# EAGLE library part F28388DZWTSR (library F28388DZWTSR)
32-bit Microcontrollers - MCU C2000 32-bit MCU w/ connectivity manager, 2x C28x+CLA CPU, 1.5-MB flash, FPU64, CLB, ENET, EtherCAT 337-NFBGA -40 to 125 Source: Datasheet <https://www.ti.com/lit/ds/symlink/tms320f28388d.pdf?ts=1627491509300>
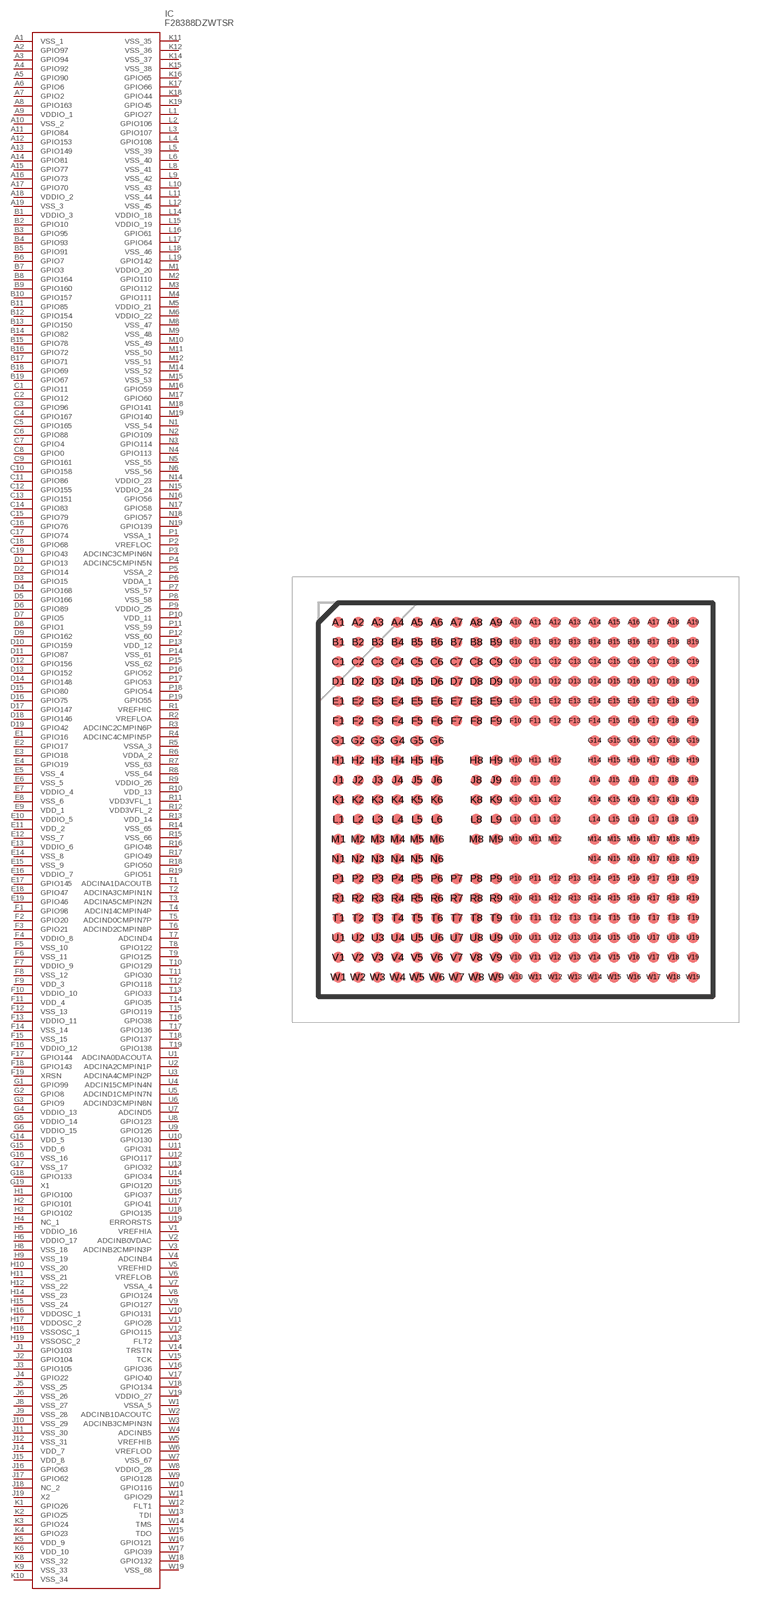
[diagram p0: symbol with the pads of BGA337C80P19X19_1600X1600X140; footprint BGA337C80P19X19_1600X1600X140]

Designator prefix IC

## F28388DZWTSR (Arrow_Part_Number: F28388DZWTSR; Arrow_Price-Stock: https://www.arrow.com/en/products/f28388dzwtsr/texas-instruments?utm_currency=USD&region=nac; Description: 32-bit Microcontrollers - MCU C2000 32-bit MCU w/ connectivity manager, 2x C28x+CLA CPU, 1.5-MB flash, FPU64, CLB, ENET, EtherCAT 337-NFBGA -40 to 125; Height: 1.4mm; Manufacturer_Name: Texas Instruments; Manufacturer_Part_Number: F28388DZWTSR; Mouser_Part_Number: 595-F28388DZWTSR; Mouser_Price-Stock: https://www.mouser.co.uk/ProductDetail/Texas-Instruments/F28388DZWTSR?qs=mAH9sUMRCtsR9XHp7VqOZA%3D%3D)  [BGA337C80P19X19_1600X1600X140]
A1  VSS_1
A2  GPIO97
A3  GPIO94
A4  GPIO92
A5  GPIO90
A6  GPIO6
A7  GPIO2
A8  GPIO163
A9  VDDIO_1
A10  VSS_2
A11  GPIO84
A12  GPIO153
A13  GPIO149
A14  GPIO81
A15  GPIO77
A16  GPIO73
A17  GPIO70
A18  VDDIO_2
A19  VSS_3
B1  VDDIO_3
B2  GPIO10
B3  GPIO95
B4  GPIO93
B5  GPIO91
B6  GPIO7
B7  GPIO3
B8  GPIO164
B9  GPIO160
B10  GPIO157
B11  GPIO85
B12  GPIO154
B13  GPIO150
B14  GPIO82
B15  GPIO78
B16  GPIO72
B17  GPIO71
B18  GPIO69
B19  GPIO67
C1  GPIO11
C2  GPIO12
C3  GPIO96
C4  GPIO167
C5  GPIO165
C6  GPIO88
C7  GPIO4
C8  GPIO0
C9  GPIO161
C10  GPIO158
C11  GPIO86
C12  GPIO155
C13  GPIO151
C14  GPIO83
C15  GPIO79
C16  GPIO76
C17  GPIO74
C18  GPIO68
C19  GPIO43
D1  GPIO13
D2  GPIO14
D3  GPIO15
D4  GPIO168
D5  GPIO166
D6  GPIO89
D7  GPIO5
D8  GPIO1
D9  GPIO162
D10  GPIO159
D11  GPIO87
D12  GPIO156
D13  GPIO152
D14  GPIO148
D15  GPIO80
D16  GPIO75
D17  GPIO147
D18  GPIO146
D19  GPIO42
E1  GPIO16
E2  GPIO17
E3  GPIO18
E4  GPIO19
E5  VSS_4
E6  VSS_5
E7  VDDIO_4
E8  VSS_6
E9  VDD_1
E10  VDDIO_5
E11  VDD_2
E12  VSS_7
E13  VDDIO_6
E14  VSS_8
E15  VSS_9
E16  VDDIO_7
E17  GPIO145
E18  GPIO47
E19  GPIO46
F1  GPIO98
F2  GPIO20
F3  GPIO21
F4  VDDIO_8
F5  VSS_10
F6  VSS_11
F7  VDDIO_9
F8  VSS_12
F9  VDD_3
F10  VDDIO_10
F11  VDD_4
F12  VSS_13
F13  VDDIO_11
F14  VSS_14
F15  VSS_15
F16  VDDIO_12
F17  GPIO144
F18  GPIO143
F19  XRSN
G1  GPIO99
G2  GPIO8
G3  GPIO9
G4  VDDIO_13
G5  VDDIO_14
G6  VDDIO_15
G14  VDD_5
G15  VDD_6
G16  VSS_16
G17  VSS_17
G18  GPIO133
G19  X1
H1  GPIO100
H2  GPIO101
H3  GPIO102
H4  NC_1
H5  VDDIO_16
H6  VDDIO_17
H8  VSS_18
H9  VSS_19
H10  VSS_20
H11  VSS_21
H12  VSS_22
H14  VSS_23
H15  VSS_24
H16  VDDOSC_1
H17  VDDOSC_2
H18  VSSOSC_1
H19  VSSOSC_2
J1  GPIO103
J2  GPIO104
J3  GPIO105
J4  GPIO22
J5  VSS_25
J6  VSS_26
J8  VSS_27
J9  VSS_28
J10  VSS_29
J11  VSS_30
J12  VSS_31
J14  VDD_7
J15  VDD_8
J16  GPIO63
J17  GPIO62
J18  NC_2
J19  X2
K1  GPIO26
K2  GPIO25
K3  GPIO24
K4  GPIO23
K5  VDD_9
K6  VDD_10
K8  VSS_32
K9  VSS_33
K10  VSS_34
K11  VSS_35
K12  VSS_36
K14  VSS_37
K15  VSS_38
K16  GPIO65
K17  GPIO66
K18  GPIO44
K19  GPIO45
L1  GPIO27
L2  GPIO106
L3  GPIO107
L4  GPIO108
L5  VSS_39
L6  VSS_40
L8  VSS_41
L9  VSS_42
L10  VSS_43
L11  VSS_44
L12  VSS_45
L14  VDDIO_18
L15  VDDIO_19
L16  GPIO61
L17  GPIO64
L18  VSS_46
L19  GPIO142
M1  VDDIO_20
M2  GPIO110
M3  GPIO112
M4  GPIO111
M5  VDDIO_21
M6  VDDIO_22
M8  VSS_47
M9  VSS_48
M10  VSS_49
M11  VSS_50
M12  VSS_51
M14  VSS_52
M15  VSS_53
M16  GPIO59
M17  GPIO60
M18  GPIO141
M19  GPIO140
N1  VSS_54
N2  GPIO109
N3  GPIO114
N4  GPIO113
N5  VSS_55
N6  VSS_56
N14  VDDIO_23
N15  VDDIO_24
N16  GPIO56
N17  GPIO58
N18  GPIO57
N19  GPIO139
P1  VSSA_1
P2  VREFLOC
P3  ADCINC3CMPIN6N
P4  ADCINC5CMPIN5N
P5  VSSA_2
P6  VDDA_1
P7  VSS_57
P8  VSS_58
P9  VDDIO_25
P10  VDD_11
P11  VSS_59
P12  VSS_60
P13  VDD_12
P14  VSS_61
P15  VSS_62
P16  GPIO52
P17  GPIO53
P18  GPIO54
P19  GPIO55
R1  VREFHIC
R2  VREFLOA
R3  ADCINC2CMPIN6P
R4  ADCINC4CMPIN5P
R5  VSSA_3
R6  VDDA_2
R7  VSS_63
R8  VSS_64
R9  VDDIO_26
R10  VDD_13
R11  VDD3VFL_1
R12  VDD3VFL_2
R13  VDD_14
R14  VSS_65
R15  VSS_66
R16  GPIO48
R17  GPIO49
R18  GPIO50
R19  GPIO51
T1  ADCINA1DACOUTB
T2  ADCINA3CMPIN1N
T3  ADCINA5CMPIN2N
T4  ADCIN14CMPIN4P
T5  ADCIND0CMPIN7P
T6  ADCIND2CMPIN8P
T7  ADCIND4
T8  GPIO122
T9  GPIO125
T10  GPIO129
T11  GPIO30
T12  GPIO118
T13  GPIO33
T14  GPIO35
T15  GPIO119
T16  GPIO38
T17  GPIO136
T18  GPIO137
T19  GPIO138
U1  ADCINA0DACOUTA
U2  ADCINA2CMPIN1P
U3  ADCINA4CMPIN2P
U4  ADCIN15CMPIN4N
U5  ADCIND1CMPIN7N
U6  ADCIND3CMPIN8N
U7  ADCIND5
U8  GPIO123
U9  GPIO126
U10  GPIO130
U11  GPIO31
U12  GPIO117
U13  GPIO32
U14  GPIO34
U15  GPIO120
U16  GPIO37
U17  GPIO41
U18  GPIO135
U19  ERRORSTS
V1  VREFHIA
V2  ADCINB0VDAC
V3  ADCINB2CMPIN3P
V4  ADCINB4
V5  VREFHID
V6  VREFLOB
V7  VSSA_4
V8  GPIO124
V9  GPIO127
V10  GPIO131
V11  GPIO28
V12  GPIO115
V13  FLT2
V14  TRSTN
V15  TCK
V16  GPIO36
V17  GPIO40
V18  GPIO134
V19  VDDIO_27
W1  VSSA_5
W2  ADCINB1DACOUTC
W3  ADCINB3CMPIN3N
W4  ADCINB5
W5  VREFHIB
W6  VREFLOD
W7  VSS_67
W8  VDDIO_28
W9  GPIO128
W10  GPIO116
W11  GPIO29
W12  FLT1
W13  TDI
W14  TMS
W15  TDO
W16  GPIO121
W17  GPIO39
W18  GPIO132
W19  VSS_68

## Footprint BGA337C80P19X19_1600X1600X140 (pad centres in mm)
ZWT (S-PBGA-N337)
smd 0.45 x 0.45: A1 -7.2,7.2; A2 -6.4,7.2; A3 -5.6,7.2; A4 -4.8,7.2; A5 -4,7.2; A6 -3.2,7.2; A7 -2.4,7.2; A8 -1.6,7.2; A9 -0.8,7.2; A10 0,7.2; A11 0.8,7.2; A12 1.6,7.2; A13 2.4,7.2; A14 3.2,7.2; A15 4,7.2; A16 4.8,7.2; A17 5.6,7.2; A18 6.4,7.2; A19 7.2,7.2; B1 -7.2,6.4; B2 -6.4,6.4; B3 -5.6,6.4; B4 -4.8,6.4; B5 -4,6.4; B6 -3.2,6.4; B7 -2.4,6.4; B8 -1.6,6.4; B9 -0.8,6.4; B10 0,6.4; B11 0.8,6.4; B12 1.6,6.4; B13 2.4,6.4; B14 3.2,6.4; B15 4,6.4; B16 4.8,6.4; B17 5.6,6.4; B18 6.4,6.4; B19 7.2,6.4; C1 -7.2,5.6; C2 -6.4,5.6; C3 -5.6,5.6; C4 -4.8,5.6; C5 -4,5.6; C6 -3.2,5.6; C7 -2.4,5.6; C8 -1.6,5.6; C9 -0.8,5.6; C10 0,5.6; C11 0.8,5.6; C12 1.6,5.6; C13 2.4,5.6; C14 3.2,5.6; C15 4,5.6; C16 4.8,5.6; C17 5.6,5.6; C18 6.4,5.6; C19 7.2,5.6; D1 -7.2,4.8; D2 -6.4,4.8; D3 -5.6,4.8; D4 -4.8,4.8; D5 -4,4.8; D6 -3.2,4.8; D7 -2.4,4.8; D8 -1.6,4.8; D9 -0.8,4.8; D10 0,4.8; D11 0.8,4.8; D12 1.6,4.8; D13 2.4,4.8; D14 3.2,4.8; D15 4,4.8; D16 4.8,4.8; D17 5.6,4.8; D18 6.4,4.8; D19 7.2,4.8; E1 -7.2,4; E2 -6.4,4; E3 -5.6,4; E4 -4.8,4; E5 -4,4; E6 -3.2,4; E7 -2.4,4; E8 -1.6,4; E9 -0.8,4; E10 0,4; E11 0.8,4; E12 1.6,4; E13 2.4,4; E14 3.2,4; E15 4,4; E16 4.8,4; E17 5.6,4; E18 6.4,4; E19 7.2,4; F1 -7.2,3.2; F2 -6.4,3.2; F3 -5.6,3.2; F4 -4.8,3.2; F5 -4,3.2; F6 -3.2,3.2; F7 -2.4,3.2; F8 -1.6,3.2; F9 -0.8,3.2; F10 0,3.2; F11 0.8,3.2; F12 1.6,3.2; F13 2.4,3.2; F14 3.2,3.2; F15 4,3.2; F16 4.8,3.2; F17 5.6,3.2; F18 6.4,3.2; F19 7.2,3.2; G1 -7.2,2.4; G2 -6.4,2.4; G3 -5.6,2.4; G4 -4.8,2.4; G5 -4,2.4; G6 -3.2,2.4; G14 3.2,2.4; G15 4,2.4; G16 4.8,2.4; G17 5.6,2.4; G18 6.4,2.4; G19 7.2,2.4; H1 -7.2,1.6; H2 -6.4,1.6; H3 -5.6,1.6; H4 -4.8,1.6; H5 -4,1.6; H6 -3.2,1.6; H8 -1.6,1.6; H9 -0.8,1.6; H10 0,1.6; H11 0.8,1.6; H12 1.6,1.6; H14 3.2,1.6; H15 4,1.6; H16 4.8,1.6; H17 5.6,1.6; H18 6.4,1.6; H19 7.2,1.6; J1 -7.2,0.8; J2 -6.4,0.8; J3 -5.6,0.8; J4 -4.8,0.8; J5 -4,0.8; J6 -3.2,0.8; J8 -1.6,0.8; J9 -0.8,0.8; J10 0,0.8; J11 0.8,0.8; J12 1.6,0.8; J14 3.2,0.8; J15 4,0.8; J16 4.8,0.8; J17 5.6,0.8; J18 6.4,0.8; J19 7.2,0.8; K1 -7.2,0; K2 -6.4,0; K3 -5.6,0; K4 -4.8,0; K5 -4,0; K6 -3.2,0; K8 -1.6,0; K9 -0.8,0; K10 0,0; K11 0.8,0; K12 1.6,0; K14 3.2,0; K15 4,0; K16 4.8,0; K17 5.6,0; K18 6.4,0; K19 7.2,0; L1 -7.2,-0.8; L2 -6.4,-0.8; L3 -5.6,-0.8; L4 -4.8,-0.8; L5 -4,-0.8; L6 -3.2,-0.8; L8 -1.6,-0.8; L9 -0.8,-0.8; L10 0,-0.8; L11 0.8,-0.8; L12 1.6,-0.8; L14 3.2,-0.8; L15 4,-0.8; L16 4.8,-0.8; L17 5.6,-0.8; L18 6.4,-0.8; L19 7.2,-0.8; M1 -7.2,-1.6; M2 -6.4,-1.6; M3 -5.6,-1.6; M4 -4.8,-1.6; M5 -4,-1.6; M6 -3.2,-1.6; M8 -1.6,-1.6; M9 -0.8,-1.6; M10 0,-1.6; M11 0.8,-1.6; M12 1.6,-1.6; M14 3.2,-1.6; M15 4,-1.6; M16 4.8,-1.6; M17 5.6,-1.6; M18 6.4,-1.6; M19 7.2,-1.6; N1 -7.2,-2.4; N2 -6.4,-2.4; N3 -5.6,-2.4; N4 -4.8,-2.4; N5 -4,-2.4; N6 -3.2,-2.4; N14 3.2,-2.4; N15 4,-2.4; N16 4.8,-2.4; N17 5.6,-2.4; N18 6.4,-2.4; N19 7.2,-2.4; P1 -7.2,-3.2; P2 -6.4,-3.2; P3 -5.6,-3.2; P4 -4.8,-3.2; P5 -4,-3.2; P6 -3.2,-3.2; P7 -2.4,-3.2; P8 -1.6,-3.2; P9 -0.8,-3.2; P10 0,-3.2; P11 0.8,-3.2; P12 1.6,-3.2; P13 2.4,-3.2; P14 3.2,-3.2; P15 4,-3.2; P16 4.8,-3.2; P17 5.6,-3.2; P18 6.4,-3.2; P19 7.2,-3.2; R1 -7.2,-4; R2 -6.4,-4; R3 -5.6,-4; R4 -4.8,-4; R5 -4,-4; R6 -3.2,-4; R7 -2.4,-4; R8 -1.6,-4; R9 -0.8,-4; R10 0,-4; R11 0.8,-4; R12 1.6,-4; R13 2.4,-4; R14 3.2,-4; R15 4,-4; R16 4.8,-4; R17 5.6,-4; R18 6.4,-4; R19 7.2,-4; T1 -7.2,-4.8; T2 -6.4,-4.8; T3 -5.6,-4.8; T4 -4.8,-4.8; T5 -4,-4.8; T6 -3.2,-4.8; T7 -2.4,-4.8; T8 -1.6,-4.8; T9 -0.8,-4.8; T10 0,-4.8; T11 0.8,-4.8; T12 1.6,-4.8; T13 2.4,-4.8; T14 3.2,-4.8; T15 4,-4.8; T16 4.8,-4.8; T17 5.6,-4.8; T18 6.4,-4.8; T19 7.2,-4.8; U1 -7.2,-5.6; U2 -6.4,-5.6; U3 -5.6,-5.6; U4 -4.8,-5.6; U5 -4,-5.6; U6 -3.2,-5.6; U7 -2.4,-5.6; U8 -1.6,-5.6; U9 -0.8,-5.6; U10 0,-5.6; U11 0.8,-5.6; U12 1.6,-5.6; U13 2.4,-5.6; U14 3.2,-5.6; U15 4,-5.6; U16 4.8,-5.6; U17 5.6,-5.6; U18 6.4,-5.6; U19 7.2,-5.6; V1 -7.2,-6.4; V2 -6.4,-6.4; V3 -5.6,-6.4; V4 -4.8,-6.4; V5 -4,-6.4; V6 -3.2,-6.4; V7 -2.4,-6.4; V8 -1.6,-6.4; V9 -0.8,-6.4; V10 0,-6.4; V11 0.8,-6.4; V12 1.6,-6.4; V13 2.4,-6.4; V14 3.2,-6.4; V15 4,-6.4; V16 4.8,-6.4; V17 5.6,-6.4; V18 6.4,-6.4; V19 7.2,-6.4; W1 -7.2,-7.2; W2 -6.4,-7.2; W3 -5.6,-7.2; W4 -4.8,-7.2; W5 -4,-7.2; W6 -3.2,-7.2; W7 -2.4,-7.2; W8 -1.6,-7.2; W9 -0.8,-7.2; W10 0,-7.2; W11 0.8,-7.2; W12 1.6,-7.2; W13 2.4,-7.2; W14 3.2,-7.2; W15 4,-7.2; W16 4.8,-7.2; W17 5.6,-7.2; W18 6.4,-7.2; W19 7.2,-7.2